# Altium footprint library Synthiam-new.PcbLib: 262 footprints (part 3 of 17)
Each footprint in its own frame and in the unit in brackets; x right, y up, seen from the top. Pads: shape width x height; smd on the part's side, far side on the other; paste and mask are expansions set on the pad; w line width, h text height; cw(c..) or ccw(c..) is an arc to the next point about the centre after c.
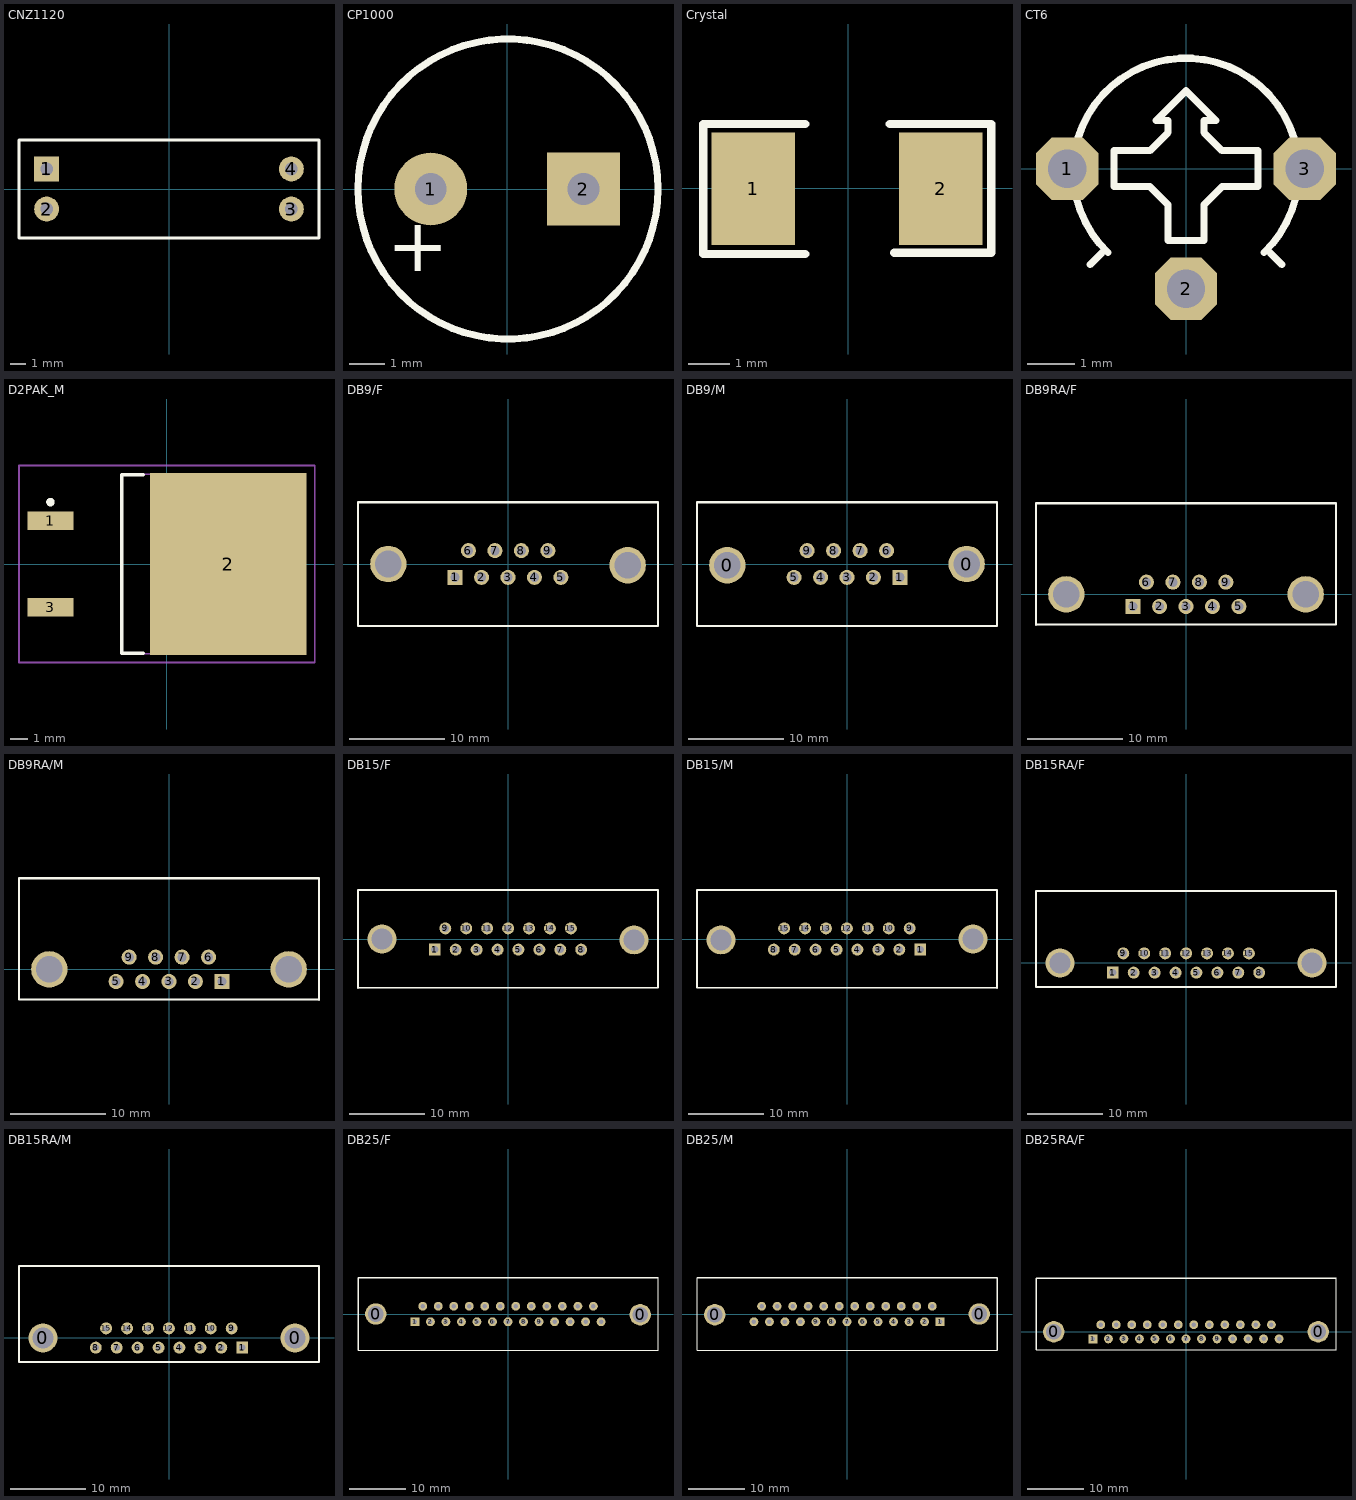
[diagram p2: the footprints below, top view; thin cyan lines are the x and y axes]

## CNZ1120 [mil]
pads (4):
  rect 62x62 hole 31.5: 1(-305.12,50)
  round 62 hole 31.5: 2(-305.12,-50) 3(305.12,-50) 4(305.12,50)
Top Overlay:
  lines w8: -374.02,-122.05 374.02,-122.05 374.02,122.05 -374.02,122.05 -374.02,-122.05
  text "." at -358,90 h80

## CP1000 [mil]
pads (2):
  round 80 hole 35: 1(-84,0)
  rect 80x80 hole 35: 2(84,0)
Top Overlay:
  circle w7.87: c1,0 r165
  text "+" at -64,-40 h59.06

## Crystal [mm]
pads (2):
  rect 2x2.7 smd: 1(-2.276,-0.01) 2(2.22,-0.01)
Top Overlay:
  lines w0.203: -1.031,-1.575 -3.48,-1.575 -3.48,1.543 -1.031,1.543 ; 1.001,1.543 3.429,1.543 3.429,-1.549 1.102,-1.549

## CT6 [mil]
pads (3):
  oct 52x52 hole 32: 1(-99,0) 2(0,-100) 3(99,0)
Top Overlay:
  lines w6: -80,-80 -70,-70 ; -65,-70 cw(c0,-2) 65,-70 ; 70,-70 80,-80 ; -60,-15 -30,-15 -15,-30 -15,-60 15,-60 15,-30 30,-15 60,-15 60,15 30,15 15,30 15,40 25,40 0,65 -25,40 -15,40 -15,30 -30,15 -60,15 -60,-15

## D2PAK_M [mm]
pads (3):
  rect 2.7x1.1 smd: 1(-6.85,2.54) 3(-6.85,-2.54)
  rect 9.2x10.7 smd: 2(3.6,0)
Top Overlay:
  circle w0.25: c-6.85,3.64 r0.125
  lines w0.2: -1.4,-5.25 -2.65,-5.25 -2.65,5.25 -1.4,5.25
Mechanical 13:
  lines w0.1: -2.65,-5.275 -2.65,5.275 6.35,5.275 6.35,-5.275 -2.65,-5.275
Mechanical 15:
  lines w0.1: -0.5,0 0.5,0 ; 0,-0.5 0,0.5 ; -8.7,-5.8 -8.7,5.8 8.7,5.8 8.7,-5.8 -8.7,-5.8

## DB9/F [mil]
pads (11):
  rect 62x62 hole 38: 1(-218,-55)
  round 62 hole 38: 2(-109,-55) 3(0,-55) 4(109,-55) 5(218,-55) 6(-163,55) 7(-54,55) 8(55,55) 9(164,55)
  round 150 hole 110: ""(-493,0) ""(493,-5)
Top Overlay:
  lines w8: -618,-255 618,-255 618,255
  lines w10: -618,-255 -618,255 618,255

## DB9/M [mil]
pads (11):
  round 150 hole 110: 0(-493,-5) 0(493,0)
  rect 62x62 hole 38: 1(218,-55)
  round 62 hole 38: 2(109,-55) 3(0,-55) 4(-109,-55) 5(-218,-55) 6(163,55) 7(54,55) 8(-55,55) 9(-164,55)
Top Overlay:
  lines w8: -618,255 -618,-255 618,-255
  lines w10: -618,255 618,255 618,-255

## DB9RA/F [mil]
pads (11):
  rect 62x62 hole 38: 1(-218,-50)
  round 62 hole 38: 2(-109,-50) 3(0,-50) 4(109,-50) 5(218,-50) 6(-163,50) 7(-54,50) 8(55,50) 9(164,50)
  round 150 hole 110: ""(-493,0) ""(493,0)
Top Overlay:
  lines w8: -618,-125 618,-125 618,375
  lines w10: -618,-125 -618,375 618,375

## DB9RA/M [mil]
pads (11):
  rect 62x62 hole 38: 1(218,-50)
  round 62 hole 38: 2(109,-50) 3(0,-50) 4(-109,-50) 5(-218,-50) 6(163,50) 7(54,50) 8(-55,50) 9(-164,50)
  round 150 hole 110: ""(-493,0) ""(493,0)
Top Overlay:
  lines w8: -618,375 -618,-125 618,-125
  lines w10: -618,375 618,375 618,-125

## DB15/F [mil]
pads (17):
  rect 62x62 hole 38: 1(-381.5,-55)
  round 62 hole 38: 2(-272.5,-55) 3(-163.5,-55) 4(-54.5,-55) 5(54.5,-55) 6(163.5,-55) 7(272.5,-55) 8(381.5,-55) 9(-326.5,55) 10(-217.5,55) 11(-108.5,55) 12(0.5,55) 13(109.5,55) 14(218.5,55) 15(327.5,55)
  round 150 hole 110: ""(-656.5,0) ""(656.5,-5)
Top Overlay:
  lines w8: -781.5,-255 781.5,-255 781.5,255
  lines w10: -781.5,-255 -781.5,255 781.5,255

## DB15/M [mil]
pads (17):
  rect 62x62 hole 38: 1(381.5,-55)
  round 62 hole 38: 2(272.5,-55) 3(163.5,-55) 4(54.5,-55) 5(-54.5,-55) 6(-163.5,-55) 7(-272.5,-55) 8(-381.5,-55) 9(326.5,55) 10(217.5,55) 11(108.5,55) 12(-0.5,55) 13(-109.5,55) 14(-218.5,55) 15(-327.5,55)
  round 150 hole 110: ""(-656.5,-5) ""(656.5,0)
Top Overlay:
  lines w8: -781.5,255 -781.5,-255 781.5,-255
  lines w10: -781.5,255 781.5,255 781.5,-255

## DB15RA/F [mil]
pads (17):
  rect 62x62 hole 38: 1(-381.5,-50)
  round 62 hole 38: 2(-272.5,-50) 3(-163.5,-50) 4(-54.5,-50) 5(54.5,-50) 6(163.5,-50) 7(272.5,-50) 8(381.5,-50) 9(-326.5,50) 10(-217.5,50) 11(-108.5,50) 12(0.5,50) 13(109.5,50) 14(218.5,50) 15(327.5,50)
  round 150 hole 110: ""(-656.5,0) ""(656.5,0)
Top Overlay:
  lines w8: -781.5,-125 781.5,-125 781.5,375
  lines w10: -781.5,-125 -781.5,375 781.5,375

## DB15RA/M [mil]
pads (17):
  round 150 hole 110: 0(-656.5,0) 0(656.5,0)
  rect 62x62 hole 32: 1(381.5,-50)
  round 62 hole 32: 2(272.5,-50) 3(163.5,-50) 4(54.5,-50) 5(-54.5,-50) 6(-163.5,-50) 7(-272.5,-50) 8(-381.5,-50) 9(326.5,50) 10(217.5,50) 11(108.5,50) 12(-0.5,50) 13(-109.5,50) 14(-218.5,50) 15(-327.5,50)
Top Overlay:
  lines w8: -781.5,375 -781.5,-125 781.5,-125
  lines w10: -781.5,375 781.5,375 781.5,-125

## DB25/F [mil]
pads (27):
  round 150 hole 110: 0(-929,0) 0(929,-5)
  rect 62x62 hole 32: 1(-654,-55)
  round 62 hole 32: 2(-545,-55) 3(-436,-55) 4(-327,-55) 5(-218,-55) 6(-109,-55) 7(0,-55) 8(109,-55) 9(218,-55) 10(327,-55) 11(436,-55) 12(545,-55) 13(654,-55) 14(-599,55) 15(-490,55) 16(-381,55) 17(-272,55) 18(-163,55) 19(-54,55) 20(55,55) 21(164,55) 22(273,55) 23(382,55) 24(491,55) 25(600,55)
Top Overlay:
  lines w8: -1054,-255 1054,-255 1054,255
  lines w10: -1054,-255 -1054,255 1054,255

## DB25/M [mil]
pads (27):
  round 150 hole 110: 0(-929,-5) 0(929,0)
  rect 62x62 hole 32: 1(654,-55)
  round 62 hole 32: 2(545,-55) 3(436,-55) 4(327,-55) 5(218,-55) 6(109,-55) 7(0,-55) 8(-109,-55) 9(-218,-55) 10(-327,-55) 11(-436,-55) 12(-545,-55) 13(-654,-55) 14(599,55) 15(490,55) 16(381,55) 17(272,55) 18(163,55) 19(54,55) 20(-55,55) 21(-164,55) 22(-273,55) 23(-382,55) 24(-491,55) 25(-600,55)
Top Overlay:
  lines w8: -1054,255 -1054,-255 1054,-255
  lines w10: -1054,255 1054,255 1054,-255

## DB25RA/F [mil]
pads (27):
  round 150 hole 110: 0(-929,0) 0(929,0)
  rect 62x62 hole 32: 1(-654,-50)
  round 62 hole 32: 2(-545,-50) 3(-436,-50) 4(-327,-50) 5(-218,-50) 6(-109,-50) 7(0,-50) 8(109,-50) 9(218,-50) 10(327,-50) 11(436,-50) 12(545,-50) 13(654,-50) 14(-599,50) 15(-490,50) 16(-381,50) 17(-272,50) 18(-163,50) 19(-54,50) 20(55,50) 21(164,50) 22(273,50) 23(382,50) 24(491,50) 25(600,50)
Top Overlay:
  lines w8: -1054,-125 1054,-125 1054,375
  lines w10: -1054,-125 -1054,375 1054,375